# Altium footprint library CurrentSense.PcbLib: 3 footprints
Each footprint in its own frame and in the unit in brackets; x right, y up, seen from the top. Pads: shape width x height; smd on the part's side, far side on the other; paste and mask are expansions set on the pad; w line width, h text height; cw(c..) or ccw(c..) is an arc to the next point about the centre after c.
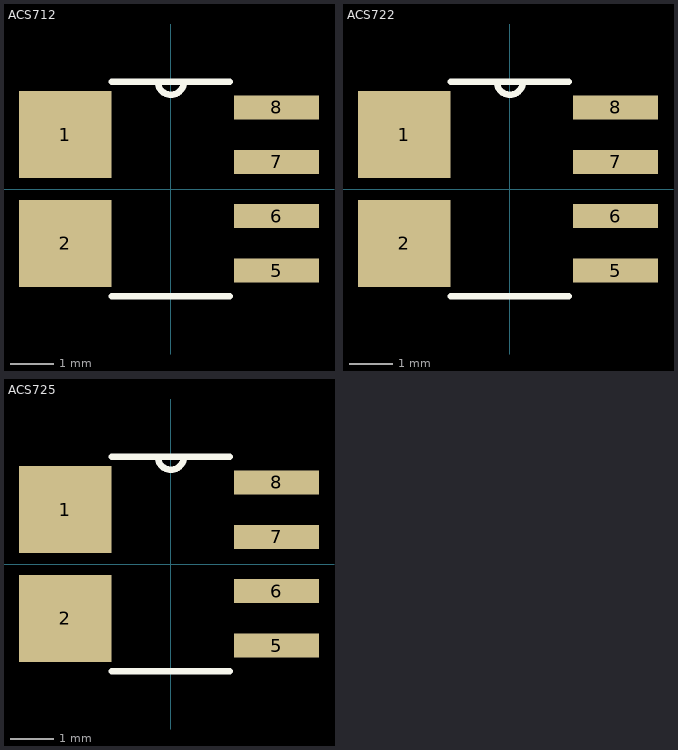
[diagram p0: the footprints below, top view; thin cyan lines are the x and y axes]

## ACS712 [mil]
pads (6):
  rect 85x80 smd: 1(-97,50) 2(-97,-50)
  rect 78x22 smd: 5(97,-75) 6(97,-25) 7(97,25) 8(97,75)
Top Overlay:
  lines w6: -54.08,-98.5 54.08,-98.5 ; -54.08,98.5 54.08,98.5 ; -12,98.5 ccw(c0,98.5) 12,98.5
Mechanical 13:
  lines w0: -12,98.5 ccw(c0,98.5) 12,98.5
3D body "TPS28225_SOIC.stp": height 63.61, standoff -0.37, extent -118.11,-97.92 118.11,95

## ACS722 [mil]
pads (6):
  rect 85x80 smd: 1(-97,50) 2(-97,-50)
  rect 78x22 smd: 5(97,-75) 6(97,-25) 7(97,25) 8(97,75)
Top Overlay:
  lines w6: -54.08,-98.5 54.08,-98.5 ; -54.08,98.5 54.08,98.5 ; -12,98.5 ccw(c0,98.5) 12,98.5
Mechanical 13:
  lines w0: -12,98.5 ccw(c0,98.5) 12,98.5
3D body "TPS28225_SOIC.stp": height 63.61, standoff -0.37, extent -118.11,-97.92 118.11,95

## ACS725 [mil]
pads (6):
  rect 85x80 smd: 1(-97,50) 2(-97,-50)
  rect 78x22 smd: 5(97,-75) 6(97,-25) 7(97,25) 8(97,75)
Top Overlay:
  lines w6: -54.08,-98.5 54.08,-98.5 ; -54.08,98.5 54.08,98.5 ; -12,98.5 ccw(c0,98.5) 12,98.5
Mechanical 13:
  lines w0: -12,98.5 ccw(c0,98.5) 12,98.5
3D body "TPS28225_SOIC.stp": height 63.61, standoff -0.37, extent -118.11,-97.92 118.11,95